# Altium schematic symbol library SCH - POWER - LINEAR VREG - TI LP2986AIM-3.0.SchLib: 1 symbol
Pins are listed as number, name and electrical type; pins without a type are passive.

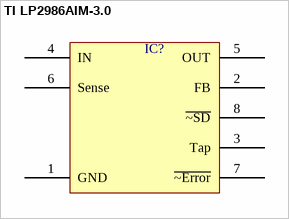
[diagram p0: symbol TI LP2986AIM-3.0]

## TI LP2986AIM-3.0
designator IC?  (value not drawn)
pins: 1 GND, 2 FB, 3 Tap, 4 IN, 5 OUT, 6 Sense, 7 ~{~Error}, 8 ~{~SD}